# Altium schematic symbol library XMITTER,FIBER OPTIC,650NM,1.9V,IF-E99B.Schlib: 1 symbol
Pins are listed as number, name and electrical type; pins without a type are passive.

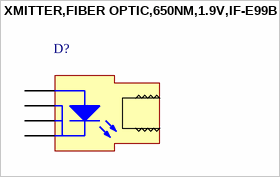
[diagram p0: symbol XMITTER,FIBER OPTIC,650NM,1.9V,IF-E99B]

## XMITTER,FIBER OPTIC,650NM,1.9V,IF-E99B
designator D?
pins: 1 K, 2 K, 3 A, 4 K